# Altium schematic symbol library EEUFC1H470.SchLib: 1 symbol
Pins are listed as number, name and electrical type; pins without a type are passive.

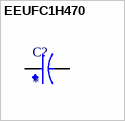
[diagram p0: symbol EEUFC1H470]

## EEUFC1H470
designator C?
Cap Aluminum Lytic 47uF 50V 20% (6.3 X 11.2mm) Radial 2.5mm 260mA 1000h 105C Automotive Bulk; MF: Panasonic; MP: EEU-FC1H470; Check_prices: https://www.snapeda.com/parts/EEU-FC1H470/Panasonic/view-part/565578/?ref=eda; SnapEDA_Link: https://www.snapeda.com/parts/EEU-FC1H470/Panasonic/view-part/565578/?ref=snap; Availability: In Stock; Price: None; Value: *; Package: RADIAL-2 Panasonic; Purchase-URL: https://pricing.snapeda.com/search/part/EEU-FC1H470/?ref=eda
footprint CAPPRD250W50D630H1120
pins: N, P